# Altium schematic symbol library SCH - POWER - LINEAR VREG - AD ADP7158A.SchLib: 1 symbol
Pins are listed as number, name and electrical type; pins without a type are passive.

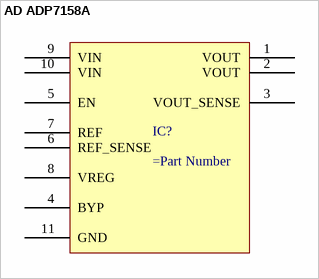
[diagram p0: symbol AD ADP7158A]

## AD ADP7158A
designator IC?
pins: 1 VOUT, 2 VOUT, 3 VOUT_SENSE, 4 BYP, 5 EN, 6 REF_SENSE, 7 REF, 8 VREG, 9 VIN, 10 VIN, 11 GND